# Altium schematic symbol library Q_NFET_D2PAK-7P.SchLib: 1 symbol
Pins are listed as number, name and electrical type; pins without a type are passive.

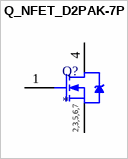
[diagram p0: symbol Q_NFET_D2PAK-7P]

## Q_NFET_D2PAK-7P
designator Q?
pins: 1 G, 2 S, 3 S, 4 D, 5 S, 6 S, 7 S
text: 2,3,5,6,7